# Altium footprint library PCB_stm32.PcbLib: 28 footprints (part 1 of 2)
Each footprint in its own frame and in the unit in brackets; x right, y up, seen from the top. Pads: shape width x height; smd on the part's side, far side on the other; paste and mask are expansions set on the pad; w line width, h text height; cw(c..) or ccw(c..) is an arc to the next point about the centre after c.
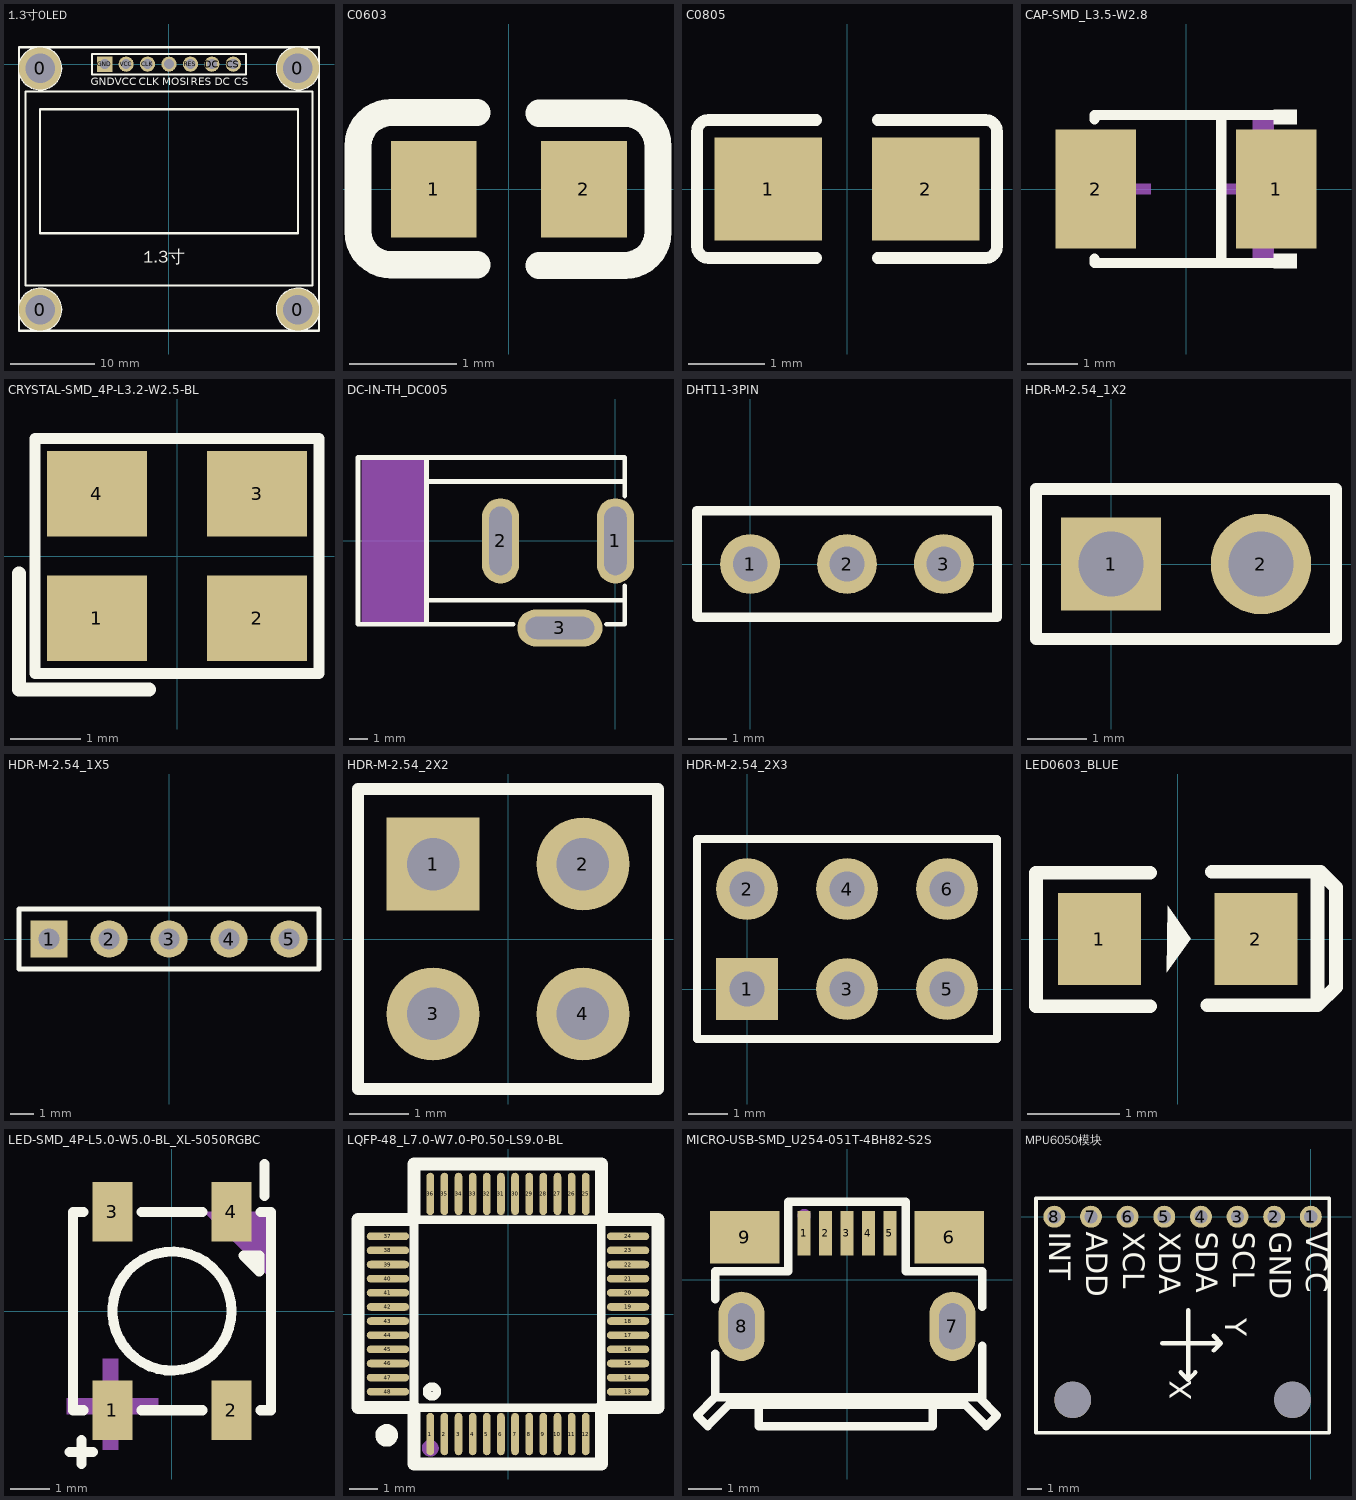
[diagram p0: the footprints below, top view; thin cyan lines are the x and y axes]

## 1.3寸OLED [mm]
pads (11):
  round 5 hole 3.5 mask+0.102: 0(-15.28,-29.095) 0(-15.28,-0.5) 0(15.28,-29.095) 0(15.28,-0.5)
  round 1.8 hole 1.2: CLK(-2.54,0) CS(7.62,0) DC(5.08,0) MOSI(0,0) RES(2.54,0) VCC(-5.08,0)
  rect 1.8x1.8 hole 1.2: GND(-7.62,0)
Top Overlay:
  circle w0.254: c-15.28,-0.5 r2.5
  circle w0.254: c15.28,-0.5 r2.5
  circle w0.254: c-15.28,-29.095 r2.5
  circle w0.254: c15.28,-29.095 r2.5
  lines w0.254: -17.78,1.905 -17.78,-31.595 17.78,-31.595 17.78,1.905 ; -17.78,2 -9.14,2 9.144,2 17.78,2 ; 9.14,-1.22 -9.14,-1.22 -9.14,1.22 9.14,1.22 ; 9.144,-1.22 9.144,1.22 ; -17,-26.25 17,-26.25 17,-3.25 -17,-3.25 -17,-26.25 ; -15.28,-20.05 15.28,-20.05 15.28,-5.35 -15.28,-5.35 -15.28,-20.05
  text "GND" at -9.246,-2.798 h1.52
  text "VCC" at -6.412,-2.798 h1.52
  text "CLK" at -3.581,-2.798 h1.52
  text "MOSI" at -0.813,-2.798 h1.52
  text "RES" at 2.565,-2.798 h1.52
  text "DC" at 5.41,-2.798 h1.52
  text "CS" at 7.747,-2.798 h1.52
  text "1.3寸" at -3.023,-24.052 h2.54

## C0603 [mm]
pads (2):
  rect 0.8x0.9 smd: 1(-0.7,0) 2(0.7,0)
Top Overlay:
  lines w0.254: -0.296,-0.704 -1.096,-0.704 cw(c-1.096,-0.394) -1.406,-0.394 -1.405,0.406 cw(c-1.096,0.406) -1.096,0.715 -0.296,0.715 ; 0.28,-0.71 1.08,-0.71 ccw(c1.08,-0.4) 1.39,-0.4 1.39,0.4 ccw(c1.08,0.4) 1.08,0.71 0.28,0.71

## C0805 [mm]
pads (2):
  rect 1.41x1.35 smd: 1(-1.03,0) 2(1.03,0)
Top Overlay:
  lines w0.152: -0.401,-0.904 -1.811,-0.904 cw(c-1.811,-0.751) -1.964,-0.751 -1.964,0.751 cw(c-1.811,0.751) -1.811,0.904 -0.401,0.904 ; 0.401,-0.904 1.811,-0.904 ccw(c1.811,-0.751) 1.964,-0.751 1.964,0.751 ccw(c1.811,0.751) 1.811,0.904 0.401,0.904
Top Paste:
  region: -1.675,-0.62 -1.675,0.66 -1.625,0.71 -0.475,0.71 -0.425,0.66 -0.42,0.25 -0.87,0.25 -0.87,-0.2 -0.43,-0.2 -0.425,-0.62 -0.475,-0.67 -1.625,-0.67
  region: 0.475,-0.62 0.475,-0.2 0.92,-0.2 0.92,0.25 0.48,0.25 0.475,0.66 0.525,0.71 1.675,0.71 1.725,0.66 1.725,-0.62 1.675,-0.67 0.525,-0.67

## CAP-SMD_L3.5-W2.8 [mm]
pads (2):
  rect 1.607x2.376 smd: 1(1.804,0) 2(-1.804,0)
Top Overlay:
  region: 1.753,1.578 1.753,1.295 2.21,1.295 2.21,1.578
  region: 1.753,-1.578 1.753,-1.295 2.21,-1.295 2.21,-1.578
  lines w0.203: -1.826,-1.391 -1.826,-1.476 1.826,-1.476 ; -1.826,1.391 -1.826,1.476 1.826,1.476 ; 0.704,-1.476 0.704,1.476
Mechanical 15:
  region: -1.54,-0.105 -1.54,0.105 -0.7,0.105 -0.7,-0.105
  region: 1.54,-0.105 1.54,0.105 0.7,0.105 0.7,-0.105
  region: 1.225,-0.7 1.225,0.7 1.015,0.7 1.015,-0.7
  region: 1.75,-1.4 1.75,-0.7 1.33,-0.7 1.33,-1.4
  region: 1.75,1.4 1.75,0.7 1.33,0.7 1.33,1.4

## CRYSTAL-SMD_4P-L3.2-W2.5-BL [mil]
pads (4):
  rect 56x48 smd: 1(-45,-35) 2(45,-35) 3(45,35) 4(-45,35)
Top Overlay:
  lines w6: -79.87,-66.08 -79.87,66.09 79.87,66.09 79.87,-66.08 -79.87,-66.08
  lines w8: -88.87,-9.84 -88.87,-75.08 -15.75,-75.08
Mechanical 15:
  circle w14.17: c-45,-35.01 r7.07

## DC-IN-TH_DC005 [mm]
pads (3):
  oval 2x4.6 hole 1.2 slot 3.7 at 90 deg: 1(0,0) 2(-6.2,0)
  oval 4.6x2 hole 1.2 slot 3.7 at 0 deg: 3(-3,-4.7)
Top Overlay:
  lines w0.254: -10.199,-4.5 -10.199,4.5 ; -10.119,-3.2 0.501,-3.2 ; -10.119,3.2 0.501,3.2 ; -5.514,-4.5 -13.9,-4.5 -13.9,4.5 0.501,4.5 0.501,2.425 ; -0.485,-4.5 0.501,-4.5 0.501,-2.424
Mechanical 15:
  region: -13.7,4.35 -10.3,4.35 -10.3,-4.45 -13.7,-4.45

## DHT11-3PIN [mil]
pads (3):
  round 62 hole 36: 1(0,0) 2(100,0) 3(200,0)
Top Overlay:
  lines w10: 255,52.5 255,-55 -55,-55 -55,55 255,55

## HDR-M-2.54_1X2 [mm]
pads (2):
  rect 1.7x1.575 hole 1.1: 1(0,0)
  round 1.7 hole 1.1: 2(2.54,0)
Top Overlay:
  lines w0.203: -1.27,-1.27 -1.27,1.27 0.635,1.27 3.81,1.27 3.81,-1.27 -1.27,-1.27

## HDR-M-2.54_1X5 [mil]
pads (5):
  rect 62x62 hole 35: 1(-200,0)
  round 62 hole 35: 2(-100,0) 3(0,0) 4(100,0) 5(200,0)
Top Overlay:
  lines w7.99: -175,50 250,50
  lines w8: -175,50 -250,50 -250,-50 250,-50 250,50

## HDR-M-2.54_2X2 [mil]
pads (4):
  rect 62x62 hole 35: 1(-50,50)
  round 62 hole 35: 2(50,50) 3(-50,-50) 4(50,-50)
Top Overlay:
  lines w8: -100,-100 -100,100 100,100 100,-100 -100,-100

## HDR-M-2.54_2X3 [mil]
pads (6):
  rect 62x62 hole 35: 1(0,0)
  round 62 hole 35: 2(0,100) 3(100,0) 4(100,100) 5(200,0) 6(200,100)
Top Overlay:
  lines w8: 58.33,-50 250,-50 ; 250,-50 -50,-50 -50,150 250,150 250,-50

## LED0603_BLUE [mm]
pads (2):
  rect 0.9x1 smd: 1(-0.85,0) 2(0.85,0)
Top Overlay:
  region: -0.11,0.36 -0.12,-0.36 0.14,0
  lines w0.15: -0.3,-0.73 -1.54,-0.73 -1.54,0.72 -0.3,0.72 ; 0.32,-0.72 1.52,-0.72 ; 0.37,0.73 1.52,0.73 ; 1.52,-0.72 1.52,0.73 ; 1.52,-0.72 1.72,-0.52 1.72,0.56 1.55,0.73 1.52,0.73

## LED-SMD_4P-L5.0-W5.0-BL_XL-5050RGBC [mm]
pads (4):
  rect 1x1.5 smd: 1(-1.5,-2.5) 2(1.5,-2.5) 3(-1.5,2.5) 4(1.5,2.5)
Top Overlay:
  circle w0.254: c0,-0.001 r1.5
  lines w0.254: -2.586,-3.556 -1.986,-3.556 ; -2.286,-3.856 -2.286,-3.256 ; -2.23,-2.501 -2.5,-2.501 -2.5,2.499 -2.23,2.499 ; -0.77,-2.501 0.77,-2.501 ; -0.77,2.499 0.77,2.499 ; 2.23,-2.501 2.5,-2.501 2.5,2.499 2.23,2.499 ; 2.337,2.908 2.337,3.708 ; 1.8,1.399 2.2,1.399 2.2,0.999 1.8,1.399
Mechanical 15:
  region: -2.65,-2.2 -2.65,-2.6 -0.35,-2.6 -0.35,-2.2
  region: -1.75,-3.5 -1.75,-1.2 -1.45,-1.2 -1.35,-1.2 -1.35,-1.3 -1.35,-3.5
  region: 0.9,2.5 0.8,2.5 0.9,2.4 2.5,0.8 2.5,2.5

## LQFP-48_L7.0-W7.0-P0.50-LS9.0-BL [mm]
pads (48):
  oval 0.27x1.5 smd mask+0.127: 1(-2.75,-4.25) 2(-2.25,-4.25) 3(-1.75,-4.25) 4(-1.25,-4.25) 5(-0.75,-4.25) 6(-0.25,-4.25) 7(0.25,-4.25) 8(0.75,-4.25) 9(1.25,-4.25) 10(1.75,-4.25) 11(2.25,-4.25) 12(2.75,-4.25) 25(2.75,4.25) 26(2.25,4.25) 27(1.75,4.25) 28(1.25,4.25) 29(0.75,4.25) 30(0.25,4.25) 31(-0.25,4.25) 32(-0.75,4.25) 33(-1.25,4.25) 34(-1.75,4.25) 35(-2.25,4.25) 36(-2.75,4.25)
  oval 1.5x0.27 smd mask+0.127: 13(4.25,-2.75) 14(4.25,-2.25) 15(4.25,-1.75) 16(4.25,-1.25) 17(4.25,-0.75) 18(4.25,-0.25) 19(4.25,0.25) 20(4.25,0.75) 21(4.25,1.25) 22(4.25,1.75) 23(4.25,2.25) 24(4.25,2.75) 37(-4.25,2.75) 38(-4.25,2.25) 39(-4.25,1.75) 40(-4.25,1.25) 41(-4.25,0.75) 42(-4.25,0.25) 43(-4.25,-0.25) 44(-4.25,-0.75) 45(-4.25,-1.25) 46(-4.25,-1.75) 47(-4.25,-2.25) 48(-4.25,-2.75)
Top Overlay:
  circle w0.305: c-2.692,-2.743 r0.17
  lines w0.305: -3.327,-3.315 -3.327,3.34 3.302,3.34 3.302,-3.315 -3.327,-3.315
  lines w0.4: -4.294,-4.093 ccw(c-4.293,-4.293) -4.291,-4.093
  lines w0.457: -5.309,-3.315 -3.327,-3.315 -3.327,-5.309 3.302,-5.309 3.302,-3.315 5.309,-3.315 5.309,3.34 3.302,3.34 3.302,5.309 -3.327,5.309 -3.327,3.34 -5.309,3.34 -5.309,-3.315
Mechanical 15:
  circle w0.3: c-2.75,-4.75 r0.15

## MICRO-USB-SMD_U254-051T-4BH82-S2S [mm]
pads (9):
  rect 0.4x1.35 smd: 1(-1.3,1.413) 2(-0.65,1.413) 3(0,1.413) 4(0.65,1.413) 5(1.3,1.413)
  rect 2.1x1.6 smd: 6(3.1,1.288) 9(-3.1,1.288)
  oval 1.4x2.1 hole 0.8 slot 1.4 at 90 deg: 7(3.2,-1.412) 8(-3.2,-1.412)
Top Overlay:
  lines w0.254: -4,-3.562 -4.55,-4.112 -4.225,-4.437 -3.575,-3.787 3.575,-3.787 4.225,-4.437 4.55,-4.112 4,-3.562 ; -4,-2.237 -4,-3.563 4,-3.563 ; -4,-0.588 -4,0.256 -1.778,0.256 -1.778,2.362 1.778,2.362 1.778,0.256 4.099,0.256 4.099,-0.827 ; -2.675,-3.787 -2.675,-4.437 2.6,-4.437 2.6,-3.787 ; 4.099,-3.661 4.099,-1.998
Top Paste:
  region: -1.5,2.088 -1.1,2.088 -1.1,0.738 -1.5,0.738
  region: -0.85,2.088 -0.45,2.088 -0.45,0.738 -0.85,0.738
  region: -0.2,2.088 0.2,2.088 0.2,0.738 -0.2,0.738
  region: 0.45,2.088 0.85,2.088 0.85,0.738 0.45,0.738
  region: 1.1,2.088 1.5,2.088 1.5,0.738 1.1,0.738
  region: 2.05,2.088 4.15,2.088 4.15,0.488 2.05,0.488
  region: -4.15,2.088 -2.05,2.088 -2.05,0.488 -4.15,0.488
  region: 3.9,-1.762 3.9,-1.855 3.852,-2.033 3.76,-2.192 3.63,-2.323 3.47,-2.415 3.292,-2.462 3.108,-2.462 2.93,-2.415 2.77,-2.323 2.64,-2.192 2.548,-2.033 2.5,-1.855 2.5,-1.762 2.5,-1.062 2.5,-0.97 2.548,-0.792 2.64,-0.633 2.77,-0.502 2.93,-0.41 3.108,-0.362 3.292,-0.362 3.47,-0.41 3.63,-0.502 3.76,-0.633 3.852,-0.792 3.9,-0.97 3.9,-1.062
  region: -2.5,-1.762 -2.5,-1.855 -2.548,-2.033 -2.64,-2.192 -2.77,-2.323 -2.93,-2.415 -3.108,-2.462 -3.292,-2.462 -3.47,-2.415 -3.63,-2.323 -3.76,-2.192 -3.852,-2.033 -3.9,-1.855 -3.9,-1.762 -3.9,-1.062 -3.9,-0.97 -3.852,-0.792 -3.76,-0.633 -3.63,-0.502 -3.47,-0.41 -3.292,-0.362 -3.108,-0.362 -2.93,-0.41 -2.77,-0.502 -2.64,-0.633 -2.548,-0.792 -2.5,-0.97 -2.5,-1.062
Mechanical 15:
  circle w0.2: c-1.3,1.95 r0.1

## MPU6050模块 [mil]
pads (10):
  round 60 hole 36: 1(0,0) 2(-100,0) 3(-200,0) 4(-300,0) 5(-400,0) 6(-500,0) 7(-600,0) 8(-700,0)
  round 100 hole 100 unplated mask+4: ""(-650,-500) ""(-50,-500)
Top Overlay:
  lines w9.84: -750,-590 50,-590 50,50 -750,50 -750,-590
  lines w12: -405,-345 -245,-345 ; -355,-425 -335,-445 ; -335,-255 -335,-445 ; -265,-365 -245,-345 ; -335,-445 -315,-425 -335,-445 ; -245,-345 -265,-325 -245,-345
  text "VCC" at -31.28,-41.09 h100
  text "GND" at -131.28,-41 h100
  text "SCL" at -231.28,-41.09 h100
  text "SDA" at -331.28,-41.09 h100
  text "XDA" at -432.39,-41.09 h100
  text "XCL" at -531.28,-41.09 h100
  text "ADD" at -632.39,-41.09 h100
  text "INT" at -732.39,-41 h100
  text "X" at -306.61,-501 h100
  text "Y" at -252.39,-277 h100